# Altium footprint library AvionicsParts.PcbLib: 33 footprints (part 2 of 3)
Each footprint in its own frame and in the unit in brackets; x right, y up, seen from the top. Pads: shape width x height; smd on the part's side, far side on the other; paste and mask are expansions set on the pad; w line width, h text height; cw(c..) or ccw(c..) is an arc to the next point about the centre after c.
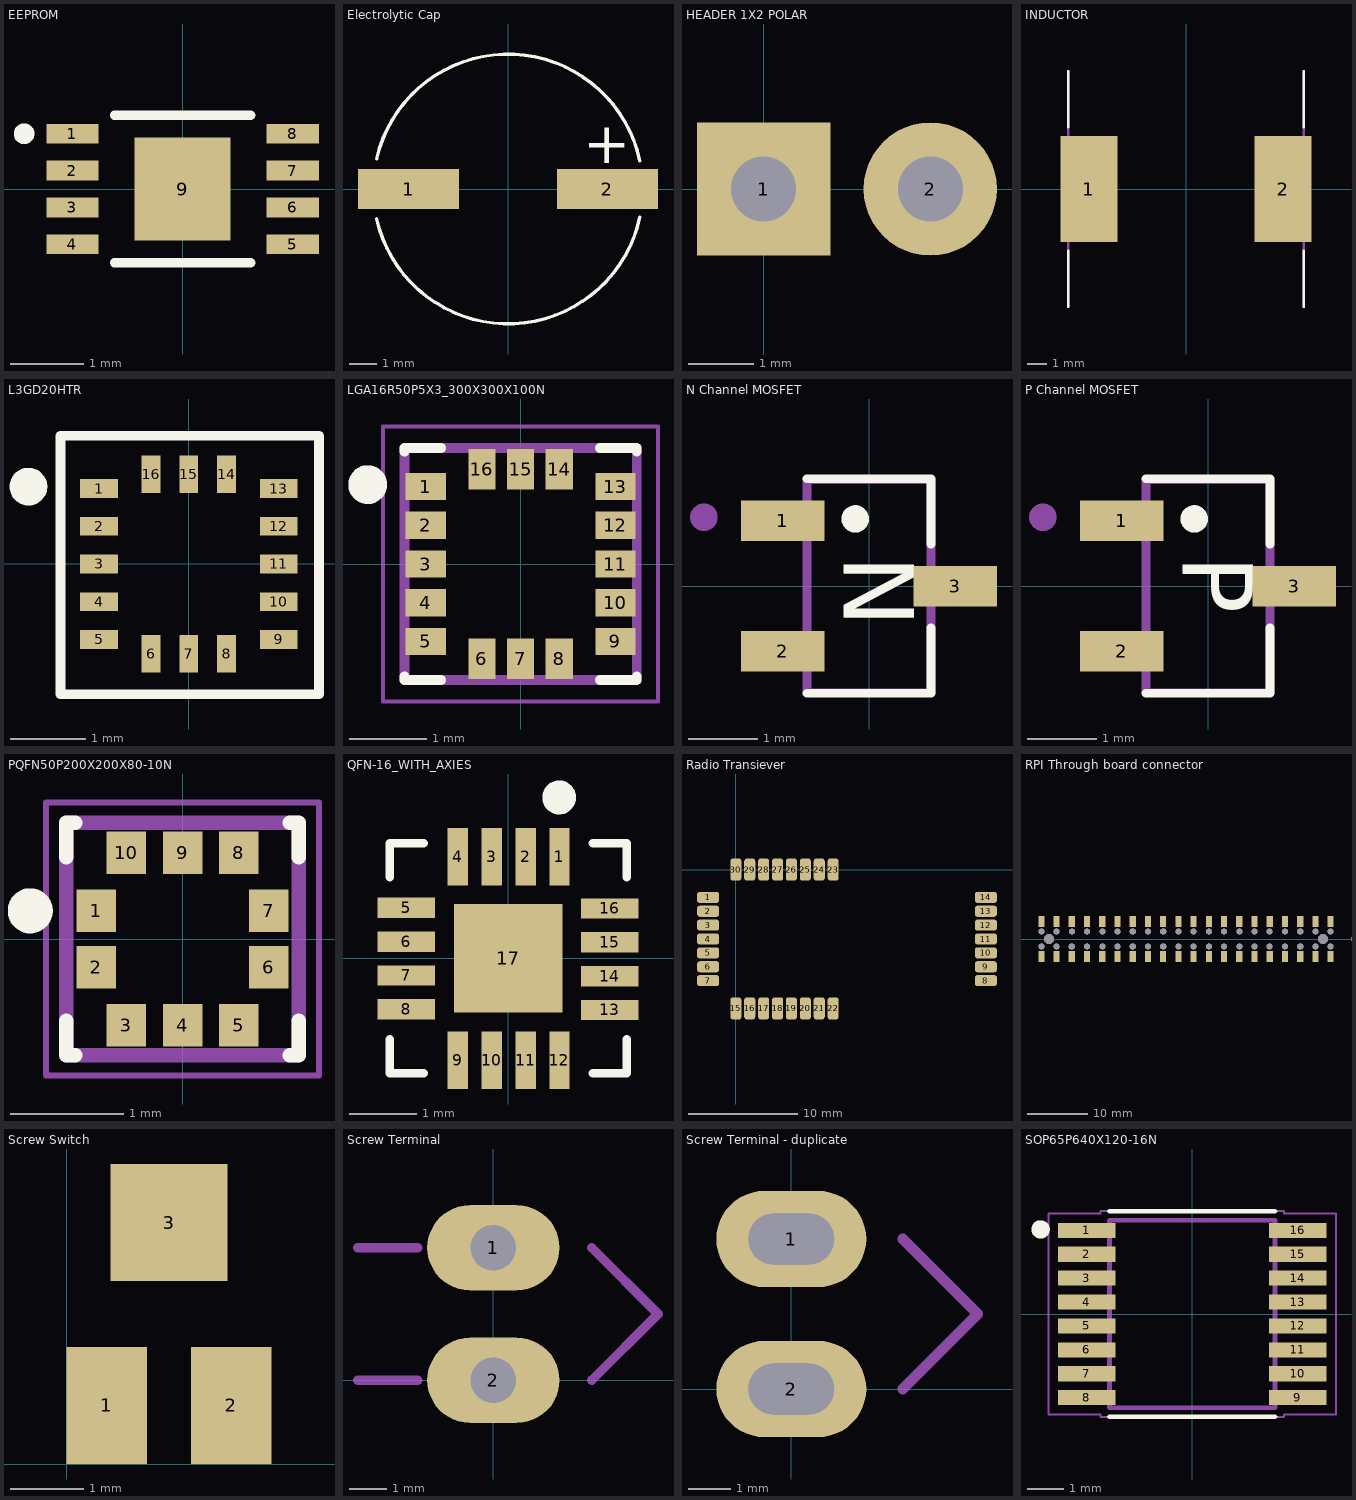
[diagram p1: the footprints below, top view; thin cyan lines are the x and y axes]

## EEPROM [mm]
pads (9):
  rect 0.71x0.27 smd mask+0.12: 1(-1.495,0.75) 2(-1.495,0.25) 3(-1.495,-0.25) 4(-1.495,-0.75) 5(1.495,-0.75) 6(1.495,-0.25) 7(1.495,0.25) 8(1.495,0.75)
  rect 1.3x1.4 smd: 9(0,0)
Top Overlay:
  circle w0.14: c-2.15,0.75 r0.07
  lines w0.127: -0.925,-1 0.925,-1 ; -0.925,1 0.925,1
Top Paste:
  region: -0.41,0.44 0.41,0.44 0.41,-0.44 -0.41,-0.44
3D body: height 1.27, standoff 0, extent -1.375,1.275 -1.375,1.275
3D body: height 1.27, standoff 0, extent -1.512,-1 1.513,1

## Electrolytic Cap [mm] "EEU-FC1H681"
pads (2):
  rect 3.75x1.5 smd: 1(-3.688,0) 2(3.688,0)
Top Overlay:
  lines w0.127: -4.876,-1.106 ccw(c0,0) 4.891,-1.039 ; -4.874,1.113 cw(c0,0) 4.891,1.038
  text "+" at 2.8,0.95 h1.52
3D body: height 1, standoff 0, extent -5,-5 5,5
3D body: height 10.5, standoff 0, extent -5,-5 5,5
3D body: height 0.4, standoff 0, extent -5,-5 5,5
3D body: height 0.25, standoff 0, extent 0,0 0,0

## HEADER 1X2 POLAR [mil]
pads (2):
  rect 80x80 hole 39: 1(0,0)
  round 80 hole 39: 2(100,0)

## INDUCTOR [mm]
pads (2):
  rect 2.9x5.4 smd: 1(-4.95,0) 2(4.95,0)
Top Overlay:
  lines w0.127: -6,-6 -6,-3.15 ; -6,3.15 -6,6 ; 6,-6 6,-3.15 ; 6,3.15 6,6
Mechanical 4:
  lines w0.127: -6,-6 -6,6 -6,-6 ; 6,-6 6,6 6,-6
3D body: height 10, standoff 0, extent -6,-6 6,6
3D body: height 0.25, standoff 0, extent -4,-4.75 -4,-4.75

## L3GD20HTR [mm]
pads (16):
  rect 0.5x0.25 smd mask+0.125: 1(-1.19,1) 2(-1.19,0.5) 3(-1.19,0) 4(-1.19,-0.5) 5(-1.19,-1) 9(1.19,-1) 10(1.19,-0.5) 11(1.19,0) 12(1.19,0.5) 13(1.19,1)
  rect 0.25x0.5 smd mask+0.125: 6(-0.5,-1.19) 7(0,-1.19) 8(0.5,-1.19) 14(0.5,1.19) 15(0,1.19) 16(-0.5,1.19)
Top Overlay:
  circle w0.25: c-2.125,1.025 r0.125
  lines w0.127: -1.7,-1.725 1.725,-1.725 1.725,1.7 -1.7,1.7 -1.7,-1.725
Top Solder:
  region: -0.8,1.25 -1.575,1.25 -1.575,-1.25 -0.8,-1.25
  region: 1.575,1.25 0.8,1.25 0.8,-1.25 1.575,-1.25
  region: -0.8,1.575 -0.8,0.8 0.8,0.8 0.8,1.575
  region: -0.8,-0.8 -0.8,-1.575 0.8,-1.575 0.8,-0.8
3D body: height 1.27, standoff 0, extent -1.4,-1.4 1.4,1.4

## LGA16R50P5X3_300X300X100N [mm]
pads (16):
  rect 0.52x0.35 smd mask-0.1: 1(-1.225,1)
  rect 0.52x0.35 smd mask+0: 2(-1.225,0.5) 3(-1.225,0) 4(-1.225,-0.5) 5(-1.225,-1) 9(1.225,-1) 10(1.225,-0.5) 11(1.225,0) 12(1.225,0.5) 13(1.225,1)
  rect 0.35x0.52 smd mask+0: 6(-0.5,-1.225) 7(0,-1.225) 8(0.5,-1.225) 14(0.5,1.225) 15(0,1.225) 16(-0.5,1.225)
Top Overlay:
  circle w0.25: c-1.975,1.025 r0.125
  lines w0.127: -1.5,-1.45 -1.5,-1.5 -1.025,-1.5 ; -1.5,1.45 -1.5,1.5 -1.025,1.5 ; 1.025,-1.5 1.5,-1.5 1.5,-1.45 ; 1.025,1.5 1.5,1.5 1.5,1.45
Top Solder:
  rectangle: -1.625,-1.325 1.625,1.325
  rectangle: -0.825,-1.65 0.825,1.65
  region: -0.282,1.532 -0.282,0.92 -0.72,0.92 -0.72,1.532
  region: 0.219,1.531 0.219,0.92 -0.22,0.92 -0.22,1.531
  region: 0.719,1.531 0.719,0.921 0.281,0.921 0.281,1.531
  region: -0.722,-1.532 -0.722,-0.921 -0.279,-0.921 -0.279,-1.532
  region: -0.222,-1.532 -0.222,-0.921 0.221,-0.921 0.221,-1.532
  region: 0.279,-1.531 0.279,-0.921 0.721,-0.921 0.721,-1.531
  region: 1.53,-1.222 0.922,-1.222 0.922,-0.78 1.53,-0.78
  region: 1.53,0.781 0.921,0.781 0.921,1.22 1.53,1.22
  region: 1.53,0.281 0.923,0.281 0.923,0.72 1.53,0.72
  region: 1.53,-0.22 0.922,-0.22 0.922,0.22 1.53,0.22
  region: 1.53,-0.721 0.921,-0.721 0.921,-0.28 1.53,-0.28
  region: -1.533,-0.78 -0.92,-0.78 -0.92,-1.222 -1.533,-1.222
  region: -1.533,-0.28 -0.92,-0.28 -0.92,-0.722 -1.533,-0.722
  region: -1.533,0.22 -0.92,0.22 -0.92,-0.22 -1.533,-0.22
  region: -1.535,0.72 -0.92,0.72 -0.92,0.281 -1.535,0.281
  region: -1.535,1.22 -0.92,1.22 -0.92,0.783 -1.535,0.783
Mechanical 4:
  lines w0.127: -1.5,-1.5 1.5,-1.5 ; -1.5,-1.5 -1.5,1.5 ; -1.5,-1.5 1.5,-1.5 ; -1.5,-1.5 -1.5,1.5 ; -1.5,1.5 1.5,1.5 ; -1.5,1.5 1.5,1.5 ; 1.5,-1.5 1.5,1.5 ; 1.5,-1.5 1.5,1.5
Mechanical 16:
  lines w0.05: -1.775,-1.775 1.775,-1.775 1.775,1.775 -1.775,1.775 -1.775,-1.775
3D body: height 1.27, standoff 0, extent -1.4,-1.4 1.4,1.4

## N Channel MOSFET [mm]
pads (3):
  rect 1.21x0.59 smd: 1(-1.255,0.95) 2(-1.255,-0.95) 3(1.255,0)
Top Overlay:
  circle w0.2: c-0.2,0.975 r0.1
  lines w0.127: -0.9,-1.559 0.9,-1.559 0.9,-0.609 ; -0.9,1.559 0.9,1.559 0.9,0.609
  text "N" at -0.7,0.45 h1.75
Mechanical 4:
  circle w0.2: c-2.4,1 r0.1
  circle w0.2: c-2.4,1 r0.1
  lines w0.127: -0.9,-1.55 0.9,-1.55 ; -0.9,-1.55 -0.9,1.55 ; -0.9,-1.55 0.9,-1.55 ; -0.9,-1.55 -0.9,1.55 ; -0.9,1.55 0.9,1.55 ; -0.9,1.55 0.9,1.55 ; 0.9,-1.55 0.9,1.55 ; 0.9,-1.55 0.9,1.55
3D body: height 1, standoff 0.1, extent -0.9,-1.6 0.9,1.55

## P Channel MOSFET [mm]
pads (3):
  rect 1.21x0.59 smd: 1(-1.255,0.95) 2(-1.255,-0.95) 3(1.255,0)
Top Overlay:
  circle w0.2: c-0.2,0.975 r0.1
  lines w0.127: -0.9,-1.559 0.9,-1.559 0.9,-0.609 ; -0.9,1.559 0.9,1.559 0.9,0.609
  text "P" at -0.7,0.45 h1.75
Mechanical 4:
  circle w0.2: c-2.4,1 r0.1
  circle w0.2: c-2.4,1 r0.1
  lines w0.127: -0.9,-1.55 -0.9,1.55 ; -0.9,-1.55 0.9,-1.55 ; -0.9,-1.55 -0.9,1.55 ; -0.9,-1.55 0.9,-1.55 ; -0.9,1.55 0.9,1.55 ; -0.9,1.55 0.9,1.55 ; 0.9,-1.55 0.9,1.55 ; 0.9,-1.55 0.9,1.55
3D body: height 1, standoff 0.1, extent -0.9,-1.6 0.9,1.55

## PQFN50P200X200X80-10N [mm]
pads (10):
  rect 0.35x0.38 smd: 1(-0.765,0.25) 2(-0.765,-0.25) 3(-0.5,-0.765) 4(0,-0.765) 5(0.5,-0.765) 6(0.765,-0.25) 7(0.765,0.25) 8(0.5,0.765) 9(0,0.765) 10(-0.5,0.765)
Top Overlay:
  circle w0.2: c-1.35,0.25 r0.1
  lines w0.127: -1.03,-0.725 -1.03,-1.03 -0.95,-1.03 ; -1.03,0.725 -1.03,1.03 -0.95,1.03 ; 0.95,-1.03 1.03,-1.03 1.03,-0.725 ; 0.95,1.03 1.03,1.03 1.03,0.725
Mechanical 4:
  lines w0.127: -1.03,-1.03 1.03,-1.03 ; -1.03,-1.03 -1.03,1.03 ; -1.03,-1.03 1.03,-1.03 ; -1.03,-1.03 -1.03,1.03 ; -1.03,1.03 1.03,1.03 ; -1.03,1.03 1.03,1.03 ; 1.03,-1.03 1.03,1.03 ; 1.03,-1.03 1.03,1.03
Mechanical 16:
  lines w0.05: -1.21,-1.21 1.21,-1.21 1.21,1.21 -1.21,1.21 -1.21,-1.21
3D body: height 1.27, standoff 0, extent -0.95,-0.95 0.95,0.95

## QFN-16_WITH_AXIES [mm]
pads (17):
  rect 0.3x0.85 smd: 1(0.754,1.498) 2(0.254,1.498) 3(-0.246,1.498) 4(-0.746,1.498) 9(-0.746,-1.506) 10(-0.246,-1.506) 11(0.254,-1.506) 12(0.754,-1.506)
  rect 0.85x0.3 smd: 5(-1.508,0.746) 6(-1.508,0.246) 7(-1.508,-0.254) 8(-1.508,-0.754) 13(1.496,-0.764) 14(1.496,-0.264) 15(1.496,0.236) 16(1.496,0.736)
  rect 1.6x1.6 smd mask+0.2: 17(0,0)
Top Overlay:
  circle w0.25: c0.75,2.375 r0.125
  circle w0.1: c0.75,2.3 r0.125
  lines w0.127: -1.75,-1.2 -1.75,-1.7 -1.25,-1.7 ; -1.75,1.2 -1.75,1.7 -1.25,1.7 ; 1.25,-1.7 1.75,-1.7 1.75,-1.2 ; 1.25,1.7 1.75,1.7 1.75,1.2
Top Paste:
  region: 0.3,0.5 0.5,0.5 0.5,0.3 0.3,0.3
  region: 0.3,-0.3 0.5,-0.3 0.5,-0.5 0.3,-0.5
  region: -0.5,-0.3 -0.3,-0.3 -0.3,-0.5 -0.5,-0.5
  region: -0.5,0.5 -0.3,0.5 -0.3,0.3 -0.5,0.3
3D body: height 1.27, standoff 0, extent -1.4,-1.25 -1.4,-1.25
3D body: height 1.27, standoff 0, extent -1.5,-1.5 1.5,1.5

## Radio Transiever [mil]
pads (30):
  rrect50% 80x40 smd: 1(-100,-100) 2(-100,-150) 3(-100,-200) 4(-100,-250) 5(-100,-300) 6(-100,-350) 7(-100,-400) 8(900,-400) 9(900,-350) 10(900,-300) 11(900,-250) 12(900,-200) 13(900,-150) 14(900,-100)
  rrect50% 40x80 smd: 15(0,-500) 16(50,-500) 17(100,-500) 18(150,-500) 19(200,-500) 20(250,-500) 21(300,-500) 22(350,-500) 23(350,0) 24(300,0) 25(250,0) 26(200,0) 27(150,0) 28(100,0) 29(50,0) 30(0,0)

## RPI Through board connector [mm]
pads (40):
  rect 1.02x1.78 smd: 1(4.87,-2.921) 2(4.87,2.921) 3(7.41,-2.921) 4(7.41,2.921) 5(9.95,-2.921) 6(9.95,2.921) 7(12.49,-2.921) 8(12.49,2.921) 9(15.03,-2.921) 10(15.03,2.921) 11(17.57,-2.921) 12(17.57,2.921) 13(20.11,-2.921) 14(20.11,2.921) 15(22.65,-2.921) 16(22.65,2.921) 17(25.19,-2.921) 18(25.19,2.921) 19(27.73,-2.921) 20(27.73,2.921) 21(30.27,-2.921) 22(30.27,2.921) 23(32.81,-2.921) 24(32.81,2.921) 25(35.35,-2.921) 26(35.35,2.921) 27(37.89,-2.921) 28(37.89,2.921) 29(40.43,-2.921) 30(40.43,2.921) 31(42.97,-2.921) 32(42.97,2.921) 33(45.51,-2.921) 34(45.51,2.921) 35(48.05,-2.921) 36(48.05,2.921) 37(50.59,-2.921) 38(50.59,2.921) 39(53.13,-2.921) 40(53.13,2.921)
via 58,0 diameter 2.75 hole 2.75
via 0,0 diameter 2.75 hole 2.75
via 0,-49 diameter 2.75 hole 2.75
via 58,-49 diameter 2.75 hole 2.75
via 53.125,1.275 diameter 1.02 hole 1.02
via 53.125,-1.275 diameter 1.02 hole 1.02
via 50.575,-1.275 diameter 1.02 hole 1.02
via 50.575,1.275 diameter 1.02 hole 1.02
via 45.5,1.275 diameter 1.02 hole 1.02
via 45.5,-1.275 diameter 1.02 hole 1.02
via 48.05,-1.275 diameter 1.02 hole 1.02
via 48.05,1.275 diameter 1.02 hole 1.02
via 42.95,-1.275 diameter 1.02 hole 1.02
via 42.95,1.275 diameter 1.02 hole 1.02
via 37.9,-1.275 diameter 1.02 hole 1.02
via 37.9,1.275 diameter 1.02 hole 1.02
via 40.425,1.275 diameter 1.02 hole 1.02
via 40.425,-1.275 diameter 1.02 hole 1.02
via 35.35,1.275 diameter 1.02 hole 1.02
via 35.35,-1.275 diameter 1.02 hole 1.02
via 15.05,-1.275 diameter 1.02 hole 1.02
via 15.05,1.275 diameter 1.02 hole 1.02
via 20.125,-1.275 diameter 1.02 hole 1.02
via 20.125,1.275 diameter 1.02 hole 1.02
via 17.6,1.275 diameter 1.02 hole 1.02
via 17.6,-1.275 diameter 1.02 hole 1.02
via 22.65,1.275 diameter 1.02 hole 1.02
via 22.65,-1.275 diameter 1.02 hole 1.02
via 25.2,-1.275 diameter 1.02 hole 1.02
via 25.2,1.275 diameter 1.02 hole 1.02
via 30.275,1.275 diameter 1.02 hole 1.02
via 30.275,-1.275 diameter 1.02 hole 1.02
via 32.825,-1.275 diameter 1.02 hole 1.02
via 32.825,1.275 diameter 1.02 hole 1.02
via 27.725,-1.275 diameter 1.02 hole 1.02
via 27.725,1.275 diameter 1.02 hole 1.02
via 12.5,1.25 diameter 1.02 hole 1.02
via 9.975,1.25 diameter 1.02 hole 1.02
via 12.5,-1.275 diameter 1.02 hole 1.02
via 9.95,-1.275 diameter 1.02 hole 1.02
via 7.425,1.275 diameter 1.02 hole 1.02
via 7.425,-1.275 diameter 1.02 hole 1.02
via 4.875,1.275 diameter 1.02 hole 1.02
via 4.875,-1.275 diameter 1.02 hole 1.02
via 6.15,0 diameter 1.6 hole 1.6
via 51.85,0 diameter 1.6 hole 1.6
3D body: height 3.55, standoff 0, extent 4,-2 54,2

## Screw Switch [mm]
pads (3):
  rect 1.1x1.6 smd: 1(0.55,0.8) 2(2.25,0.8)
  rect 1.6x1.6 smd: 3(1.4,3.3)
3D body: height 2.2, standoff 0, extent -0.175,0.3 2.975,3.8
3D body: height 2.21, standoff 0, extent 0.388,1.032 2.42,3.068

## Screw Terminal [mm] "Non-Polarized"
pads (2):
  oval 3.5x2.25 hole 1.2: 1(0,3.5) 2(0,0)
Mechanical 1:
  lines w0.254: -3.575,0 -2,0 ; -3.575,3.5 -2,3.5 ; 2.6,0 4.35,1.75 2.6,3.5
3D body: height 7.01, standoff 0, extent -3.35,-1.5 1.025,1.5
3D body: height 6, standoff 0, extent 1.625,-1.75 4.625,5.25
3D body: height 7.02, standoff 0, extent -2.596,-0.998 -0.604,0.998
3D body: height 7.02, standoff 0, extent -2.596,2.502 -0.604,4.498
3D body: height 7.01, standoff 0, extent -3.35,2 1.025,4.95
3D body: height 7, standoff 0.01, extent -3.7,-1.75 1.625,5.25

## Screw Terminal - duplicate [mm] "Non-Polarized"
pads (2):
  oval 3.5x2.25 hole 1.2 slot 2 at 0 deg: 1(0,3.5) 2(0,0)
Mechanical 1:
  lines w0.254: 2.6,0 4.35,1.75 2.6,3.5
3D body: height 7.01, standoff 0, extent -1.35,2.55 1.3,4.45

## SOP65P640X120-16N [mm]
pads (16):
  rect 1.57x0.41 smd mask+0.12: 1(-2.87,2.275) 2(-2.87,1.625) 3(-2.87,0.975) 4(-2.87,0.325) 5(-2.87,-0.325) 6(-2.87,-0.975) 7(-2.87,-1.625) 8(-2.87,-2.275) 9(2.87,-2.275) 10(2.87,-1.625) 11(2.87,-0.975) 12(2.87,-0.325) 13(2.87,0.325) 14(2.87,0.975) 15(2.87,1.625) 16(2.87,2.275)
Top Overlay:
  circle w0.25: c-4.125,2.3 r0.125
  lines w0.127: -2.25,-2.794 2.25,-2.794 ; -2.25,2.794 2.25,2.794
Mechanical 4:
  lines w0.127: -2.25,-2.55 2.25,-2.55 ; -2.25,-2.55 -2.25,2.55 ; -2.25,-2.55 2.25,-2.55 ; -2.25,-2.55 -2.25,2.55 ; -2.25,2.55 2.25,2.55 ; -2.25,2.55 2.25,2.55 ; 2.25,-2.55 2.25,2.55 ; 2.25,-2.55 2.25,2.55
Mechanical 16:
  lines w0.05: -3.91,-2.73 -3.91,2.73 -2.5,2.73 -2.5,2.8 2.5,2.8 2.5,2.73 3.91,2.73 3.91,-2.73 2.5,-2.73 2.5,-2.8 -2.5,-2.8 -2.5,-2.73 -3.91,-2.73
3D body: height 1.27, standoff 0, extent -2.2,-2.55 2.25,2.55